# Altium footprint library B2BXHAMLFSN.PcbLib: 1 footprints
Each footprint in its own frame and in the unit in brackets; x right, y up, seen from the top. Pads: shape width x height; smd on the part's side, far side on the other; paste and mask are expansions set on the pad; w line width, h text height; cw(c..) or ccw(c..) is an arc to the next point about the centre after c.
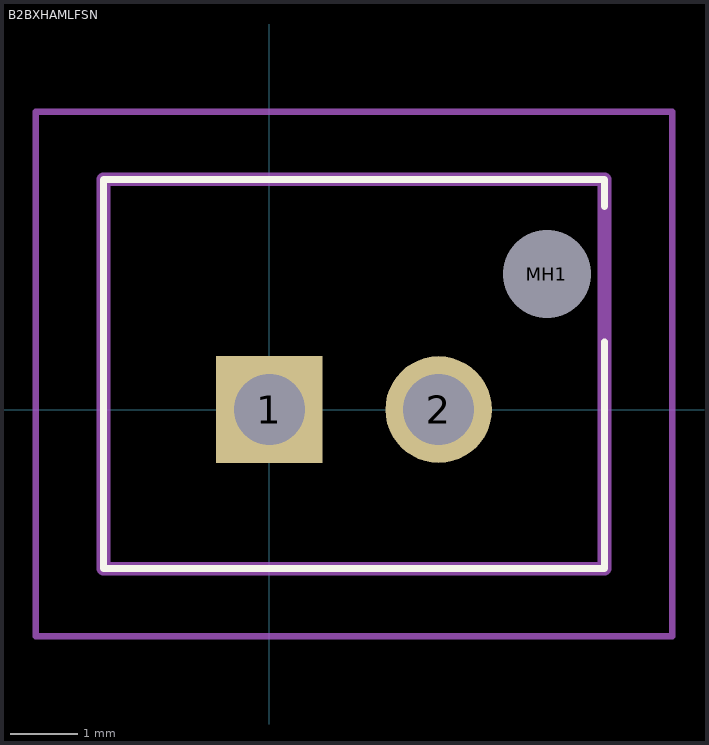
[diagram p0: the footprint, top view; thin cyan lines are the x and y axes]

## B2BXHAMLFSN [mm]
pads (3):
  rect 1.575x1.575 hole 1.05: 1(0,0)
  round 1.575 hole 1.05: 2(2.5,0)
  round 0.65 hole 1.3 unplated: MH1(4.1,2)
Top Overlay:
  lines w0.1: -2.45,-2.35 -2.45,3.4 ; -2.45,-2.35 -2.45,-2.35 ; -2.45,-2.35 -2.45,3.4 ; -2.45,-2.35 4.95,-2.35 ; -2.45,-2.35 4.95,-2.35 ; -2.45,-2.35 -2.45,-2.35 ; -2.45,3.4 4.95,3.4 ; -2.45,3.4 -2.45,3.4 ; -2.45,3.4 4.95,3.4 ; -2.45,3.4 -2.45,3.4 ; 4.95,-2.35 4.95,-2.35 ; 4.95,-2.35 4.95,-2.35 ; 4.95,-2.35 4.95,1 ; 4.95,-2.35 4.95,1 ; 4.95,1 4.95,1 ; 4.95,3 4.95,3 ; 4.95,3 4.95,3.4 ; 4.95,3 4.95,3.4 ; 4.95,3.4 4.95,3.4 ; 4.95,3.4 4.95,3.4
Mechanical 15:
  lines w0.2: -2.45,-2.35 4.95,-2.35 4.95,3.4 -2.45,3.4 -2.45,-2.35
Mechanical 20:
  lines w0.1: -3.45,-3.35 5.95,-3.35 5.95,4.4 -3.45,4.4 -3.45,-3.35